# EAGLE library part MCP3204-CI/SL (library mcp3204)
IC ADC 12BIT 2.7V 4CH SPI
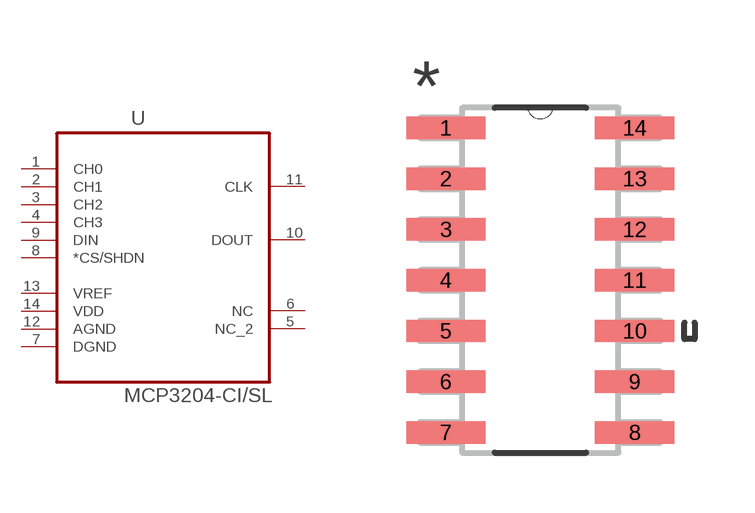
[diagram p0: symbol with the pads of SOIC127P600X175-14N; footprint SOIC127P600X175-14N]

Designator prefix U

## MCP3204-CI/SL (MPN: MCP3204-CI/SL; OC_FARNELL: 1196795; OC_NEWARK: 26M1276; PACKAGE: 14 - SOIC; SUPPLIER: Microchip)  [SOIC127P600X175-14N]
1  CH0  in
2  CH1  in
3  CH2  in
4  CH3  in
5  NC_2  nc
6  NC  nc
7  DGND  pas
8  *CS/SHDN  in
9  DIN  in
10  DOUT  out
11  CLK  in
12  AGND  pas
13  VREF  in
14  VDD  pwr

## Footprint SOIC127P600X175-14N (pad centres in mm)
smd 1.981 x 0.559: 1 -2.362,3.81; 2 -2.362,2.54; 3 -2.362,1.27; 4 -2.362,0; 5 -2.362,-1.27; 6 -2.362,-2.54; 7 -2.362,-3.81; 8 2.362,-3.81; 9 2.362,-2.54; 10 2.362,-1.27; 11 2.362,0; 12 2.362,1.27; 13 2.362,2.54; 14 2.362,3.81